# Altium footprint library MODULE_LBAA0QB1SJ-296.PcbLib: 1 footprints
Each footprint in its own frame and in the unit in brackets; x right, y up, seen from the top. Pads: shape width x height; smd on the part's side, far side on the other; paste and mask are expansions set on the pad; w line width, h text height; cw(c..) or ccw(c..) is an arc to the next point about the centre after c.
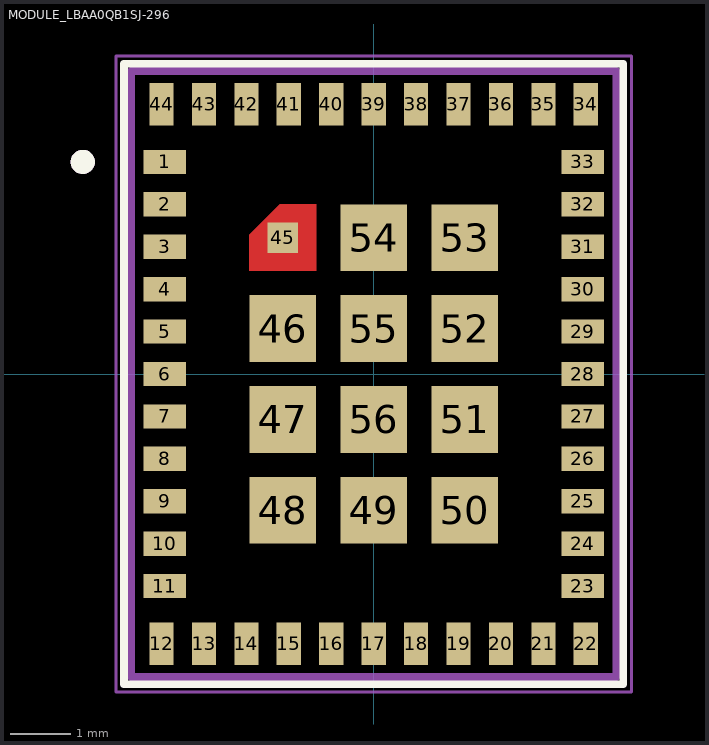
[diagram p0: the footprint, top view; thin cyan lines are the x and y axes]

## MODULE_LBAA0QB1SJ-296 [mm]
pads (56):
  rect 0.7x0.4 smd: 1(-3.45,3.5) 2(-3.45,2.8) 3(-3.45,2.1) 4(-3.45,1.4) 5(-3.45,0.7) 6(-3.45,0) 7(-3.45,-0.7) 8(-3.45,-1.4) 9(-3.45,-2.1) 10(-3.45,-2.8) 11(-3.45,-3.5) 23(3.45,-3.5) 24(3.45,-2.8) 25(3.45,-2.1) 26(3.45,-1.4) 27(3.45,-0.7) 28(3.45,0) 29(3.45,0.7) 30(3.45,1.4) 31(3.45,2.1) 32(3.45,2.8) 33(3.45,3.5)
  rect 0.4x0.7 smd: 12(-3.5,-4.45) 13(-2.8,-4.45) 14(-2.1,-4.45) 15(-1.4,-4.45) 16(-0.7,-4.45) 17(0,-4.45) 18(0.7,-4.45) 19(1.4,-4.45) 20(2.1,-4.45) 21(2.8,-4.45) 22(3.5,-4.45) 34(3.5,4.45) 35(2.8,4.45) 36(2.1,4.45) 37(1.4,4.45) 38(0.7,4.45) 39(0,4.45) 40(-0.7,4.45) 41(-1.4,4.45) 42(-2.1,4.45) 43(-2.8,4.45) 44(-3.5,4.45)
  rect 0.5x0.5 smd paste-1 mask+0: 45(-1.5,2.25)
  rect 1.1x1.1 smd: 46(-1.5,0.75) 47(-1.5,-0.75) 48(-1.5,-2.25) 49(0,-2.25) 50(1.5,-2.25) 51(1.5,-0.75) 52(1.5,0.75) 53(1.5,2.25) 54(0,2.25) 55(0,0.75) 56(0,-0.75)
Top Layer:
  region: -0.95,1.7 -2.05,1.7 -2.05,2.3 -1.55,2.8 -0.95,2.8
Top Overlay:
  circle w0.2: c-4.8,3.5 r0.1
  lines w0.127: -4.12,-5.12 4.12,-5.12 4.12,5.12 -4.12,5.12 -4.12,-5.12
Top Paste:
  region: -0.95,1.7 -2.05,1.7 -2.05,2.3 -1.55,2.8 -0.95,2.8
Top Solder:
  region: -0.85,1.6 -2.15,1.6 -2.15,2.33 -1.58,2.9 -0.85,2.9
Mechanical 13:
  circle w0.2: c-4.8,3.5 r0.1
  lines w0.127: -4,-5 4,-5 4,5 -4,5 -4,-5
Mechanical 15:
  lines w0.05: -4.25,-5.25 -4.25,5.25 4.25,5.25 4.25,-5.25 -4.25,-5.25